# Altium footprint library Button_Switch_SMD.PcbLib: 148 footprints (part 6 of 10)
Each footprint in its own frame and in the unit in brackets; x right, y up, seen from the top. Pads: shape width x height; smd on the part's side, far side on the other; paste and mask are expansions set on the pad; w line width, h text height; cw(c..) or ccw(c..) is an arc to the next point about the centre after c.
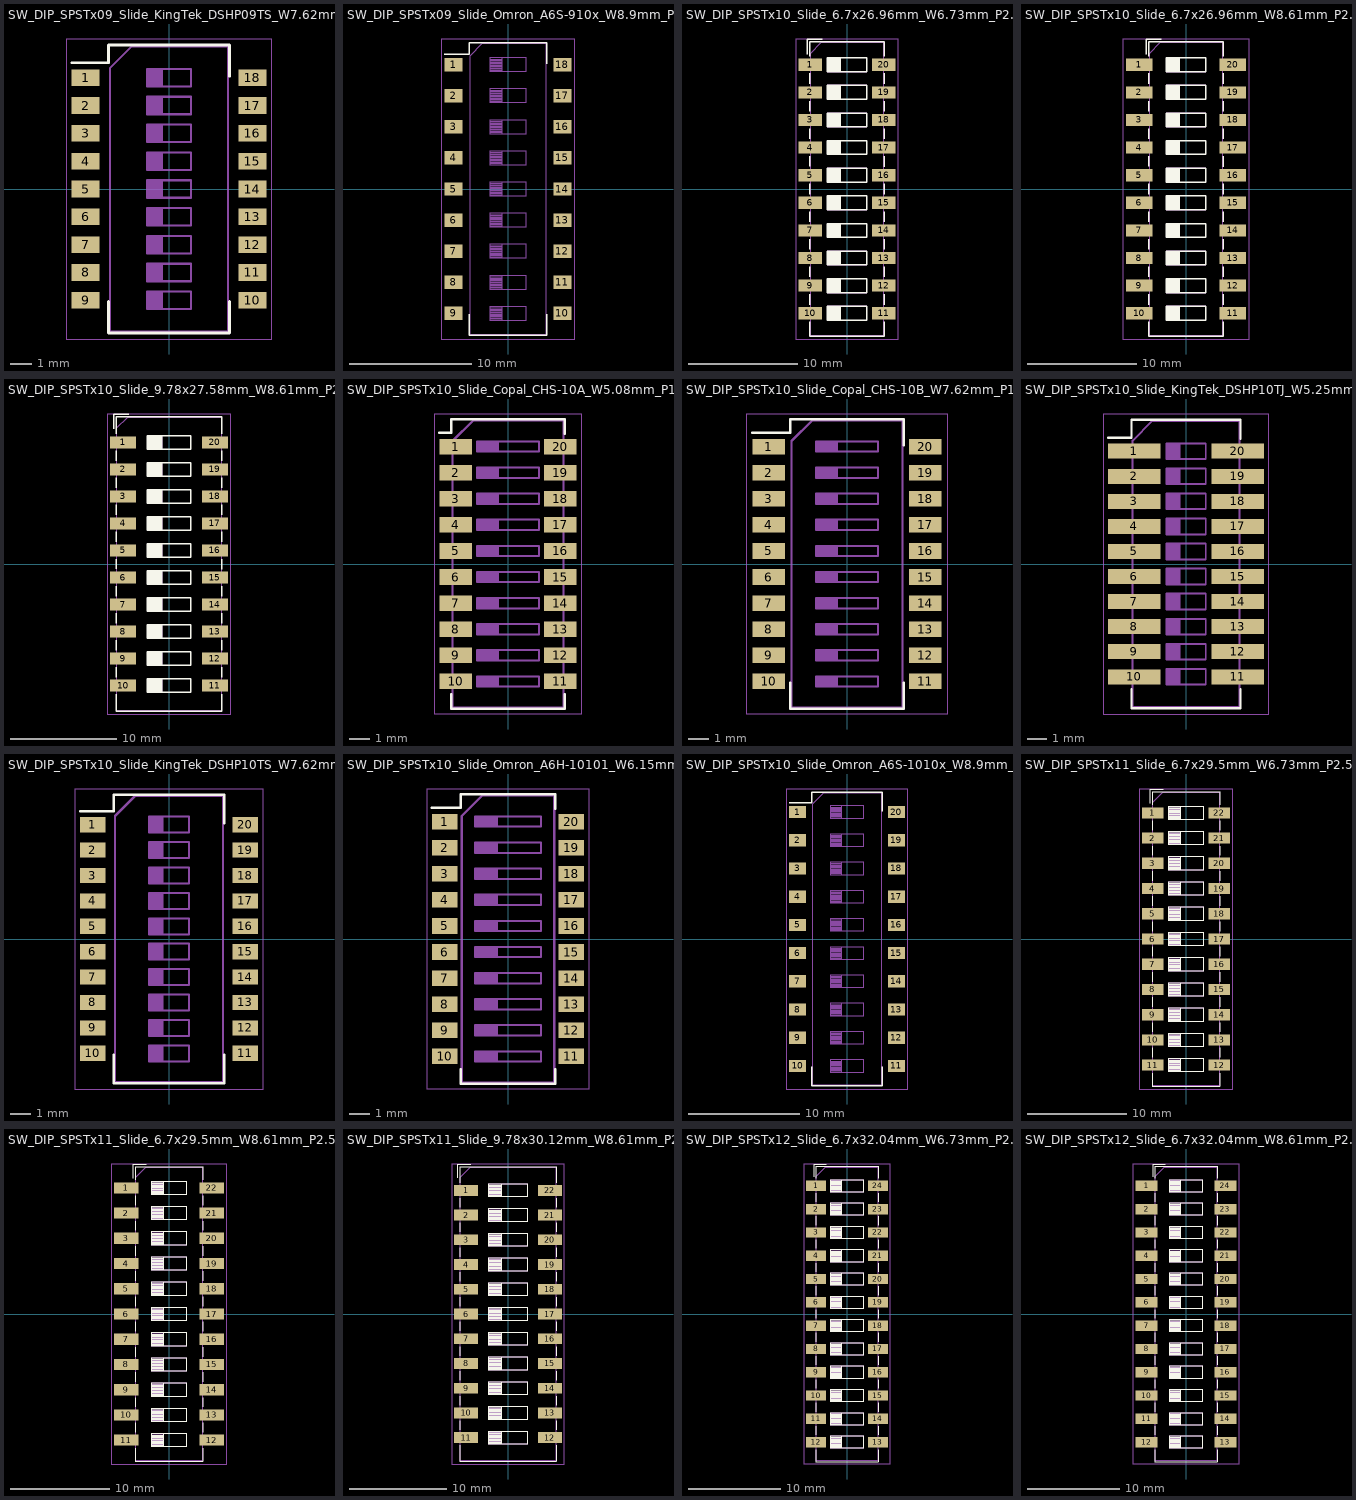
[diagram p5: the footprints below, top view; thin cyan lines are the x and y axes]

## SW_DIP_SPSTx09_Slide_KingTek_DSHP09TS_W7.62mm_P1.27mm [mm]
pads (18):
  rect 1.27x0.76 smd: 1(-3.81,5.08) 2(-3.81,3.81) 3(-3.81,2.54) 4(-3.81,1.27) 5(-3.81,0) 6(-3.81,-1.27) 7(-3.81,-2.54) 8(-3.81,-3.81) 9(-3.81,-5.08) 10(3.81,-5.08) 11(3.81,-3.81) 12(3.81,-2.54) 13(3.81,-1.27) 14(3.81,0) 15(3.81,1.27) 16(3.81,2.54) 17(3.81,3.81) 18(3.81,5.08)
F.SilkS:
  lines w0.12: -4.446,5.76 -2.76,5.76 -2.76,6.576 2.76,6.576 2.76,5.141 ; -2.76,-5.14 -2.76,-6.575 2.76,-6.575 2.76,-5.14
F.CrtYd:
  lines w0.05: -4.7,-6.85 4.7,-6.85 4.7,6.85 -4.7,6.85 -4.7,-6.85
F.Fab:
  lines w0.1: -1,-5.38 -0.333,-5.38 ; -1,-5.28 -0.333,-5.28 ; -1,-5.18 -0.333,-5.18 ; -1,-5.08 -0.333,-5.08 ; -1,-4.98 -0.333,-4.98 ; -1,-4.88 -0.333,-4.88 ; -1,-4.78 -0.333,-4.78 ; -1,-4.11 -0.333,-4.11 ; -1,-4.01 -0.333,-4.01 ; -1,-3.91 -0.333,-3.91 ; -1,-3.81 -0.333,-3.81 ; -1,-3.71 -0.333,-3.71 ; -1,-3.61 -0.333,-3.61 ; -1,-3.51 -0.333,-3.51 ; -1,-2.84 -0.333,-2.84 ; -1,-2.74 -0.333,-2.74 ; -1,-2.64 -0.333,-2.64 ; -1,-2.54 -0.333,-2.54 ; -1,-2.44 -0.333,-2.44 ; -1,-2.34 -0.333,-2.34 ; -1,-2.24 -0.333,-2.24 ; -1,-1.57 -0.333,-1.57 ; -1,-1.47 -0.333,-1.47 ; -1,-1.37 -0.333,-1.37 ; -1,-1.27 -0.333,-1.27 ; -1,-1.17 -0.333,-1.17 ; -1,-1.07 -0.333,-1.07 ; -1,-0.97 -0.333,-0.97 ; -1,-0.3 -0.333,-0.3 ; -1,-0.2 -0.333,-0.2 ; -1,-0.1 -0.333,-0.1 ; -1,0 -0.333,0 ; -1,0.1 -0.333,0.1 ; -1,0.2 -0.333,0.2 ; -1,0.3 -0.333,0.3 ; -1,0.97 -0.333,0.97 ; -1,1.07 -0.333,1.07 ; -1,1.17 -0.333,1.17 ; -1,1.27 -0.333,1.27 ; -1,1.37 -0.333,1.37 ; -1,1.47 -0.333,1.47 ; -1,1.57 -0.333,1.57 ; -1,2.24 -0.333,2.24 ; -1,2.34 -0.333,2.34 ; -1,2.44 -0.333,2.44 ; -1,2.54 -0.333,2.54 ; -1,2.64 -0.333,2.64 ; -1,2.74 -0.333,2.74 ; -1,2.84 -0.333,2.84 ; -1,3.51 -0.333,3.51 ; -1,3.61 -0.333,3.61 ; -1,3.71 -0.333,3.71 ; -1,3.81 -0.333,3.81 ; -1,3.91 -0.333,3.91 ; -1,4.01 -0.333,4.01 ; -1,4.11 -0.333,4.11 ; -1,4.78 -0.333,4.78 ; -1,4.88 -0.333,4.88 ; -1,4.98 -0.333,4.98 ; -1,5.08 -0.333,5.08 ; -1,5.18 -0.333,5.18 ; -1,5.28 -0.333,5.28 ; -1,5.38 -0.333,5.38 ; -0.333,-4.68 -0.333,-5.48 -1,-5.48 ; -0.333,-3.41 -0.333,-4.21 -1,-4.21 ; -0.333,-2.14 -0.333,-2.94 -1,-2.94 ; -0.333,-0.87 -0.333,-1.67 -1,-1.67 ; -0.333,0.4 -0.333,-0.4 -1,-0.4 ; -0.333,0.87 -0.333,1.67 ; -0.333,2.14 -0.333,2.94 ; -0.333,3.41 -0.333,4.21 ; -0.333,4.68 -0.333,5.48 ; -1,-5.48 1,-5.48 1,-4.68 -1,-4.68 -1,-5.48 ; -1,-4.21 1,-4.21 1,-3.41 -1,-3.41 -1,-4.21 ; -1,-2.94 1,-2.94 1,-2.14 -1,-2.14 -1,-2.94 ; -1,-1.67 1,-1.67 1,-0.87 -1,-0.87 -1,-1.67 ; -1,-0.4 -1,0.4 1,0.4 1,-0.4 -1,-0.4 ; -2.7,-6.515 -2.7,5.515 -1.7,6.515 2.7,6.515 2.7,-6.515 -2.7,-6.515 ; -1,0.87 -1,1.67 1,1.67 1,0.87 -1,0.87 ; -1,2.14 1,2.14 1,2.94 -1,2.94 -1,2.14 ; -1,3.41 1,3.41 1,4.21 -1,4.21 -1,3.41 ; -1,4.68 1,4.68 1,5.48 -1,5.48 -1,4.68
  text "on" at -0.72,5.611 h0.8
  text "'.Designator'" at 2.522,-3.237 h0.8

## SW_DIP_SPSTx09_Slide_Omron_A6S-910x_W8.9mm_P2.54mm [mm]
pads (18):
  rect 1.5x1.1 smd: 1(-4.45,10.16) 2(-4.45,7.62) 3(-4.45,5.08) 4(-4.45,2.54) 5(-4.45,0) 6(-4.45,-2.54) 7(-4.45,-5.08) 8(-4.45,-7.62) 9(-4.45,-10.16) 10(4.45,-10.16) 11(4.45,-7.62) 12(4.45,-5.08) 13(4.45,-2.54) 14(4.45,0) 15(4.45,2.54) 16(4.45,5.08) 17(4.45,7.62) 18(4.45,10.16)
F.SilkS:
  lines w0.12: -5.2,11.011 -3.16,11.011 -3.16,11.96 3.16,11.96 3.16,10.221 ; -3.16,-10.22 -3.16,-11.96 3.16,-11.96 3.16,-10.22
F.CrtYd:
  lines w0.05: -5.45,-12.25 -5.45,12.25 5.45,12.25 5.45,-12.25 -5.45,-12.25
F.Fab:
  lines w0.1: -1.5,-10.61 -0.5,-10.61 ; -1.5,-10.51 -0.5,-10.51 ; -1.5,-10.41 -0.5,-10.41 ; -1.5,-10.31 -0.5,-10.31 ; -1.5,-10.21 -0.5,-10.21 ; -1.5,-10.11 -0.5,-10.11 ; -1.5,-10.01 -0.5,-10.01 ; -1.5,-9.91 -0.5,-9.91 ; -1.5,-9.81 -0.5,-9.81 ; -1.5,-9.71 -0.5,-9.71 ; -1.5,-8.07 -0.5,-8.07 ; -1.5,-7.97 -0.5,-7.97 ; -1.5,-7.87 -0.5,-7.87 ; -1.5,-7.77 -0.5,-7.77 ; -1.5,-7.67 -0.5,-7.67 ; -1.5,-7.57 -0.5,-7.57 ; -1.5,-7.47 -0.5,-7.47 ; -1.5,-7.37 -0.5,-7.37 ; -1.5,-7.27 -0.5,-7.27 ; -1.5,-7.17 -0.5,-7.17 ; -1.5,-5.53 -0.5,-5.53 ; -1.5,-5.43 -0.5,-5.43 ; -1.5,-5.33 -0.5,-5.33 ; -1.5,-5.23 -0.5,-5.23 ; -1.5,-5.13 -0.5,-5.13 ; -1.5,-5.03 -0.5,-5.03 ; -1.5,-4.93 -0.5,-4.93 ; -1.5,-4.83 -0.5,-4.83 ; -1.5,-4.73 -0.5,-4.73 ; -1.5,-4.63 -0.5,-4.63 ; -1.5,-2.99 -0.5,-2.99 ; -1.5,-2.89 -0.5,-2.89 ; -1.5,-2.79 -0.5,-2.79 ; -1.5,-2.69 -0.5,-2.69 ; -1.5,-2.59 -0.5,-2.59 ; -1.5,-2.49 -0.5,-2.49 ; -1.5,-2.39 -0.5,-2.39 ; -1.5,-2.29 -0.5,-2.29 ; -1.5,-2.19 -0.5,-2.19 ; -1.5,-2.09 -0.5,-2.09 ; -1.5,-0.45 -0.5,-0.45 ; -1.5,-0.35 -0.5,-0.35 ; -1.5,-0.25 -0.5,-0.25 ; -1.5,-0.15 -0.5,-0.15 ; -1.5,-0.05 -0.5,-0.05 ; -1.5,0.05 -0.5,0.05 ; -1.5,0.15 -0.5,0.15 ; -1.5,0.25 -0.5,0.25 ; -1.5,0.35 -0.5,0.35 ; -1.5,0.45 -0.5,0.45 ; -1.5,2.09 -0.5,2.09 ; -1.5,2.19 -0.5,2.19 ; -1.5,2.29 -0.5,2.29 ; -1.5,2.39 -0.5,2.39 ; -1.5,2.49 -0.5,2.49 ; -1.5,2.59 -0.5,2.59 ; -1.5,2.69 -0.5,2.69 ; -1.5,2.79 -0.5,2.79 ; -1.5,2.89 -0.5,2.89 ; -1.5,2.99 -0.5,2.99 ; -1.5,4.63 -0.5,4.63 ; -1.5,4.73 -0.5,4.73 ; -1.5,4.83 -0.5,4.83 ; -1.5,4.93 -0.5,4.93 ; -1.5,5.03 -0.5,5.03 ; -1.5,5.13 -0.5,5.13 ; -1.5,5.23 -0.5,5.23 ; -1.5,5.33 -0.5,5.33 ; -1.5,5.43 -0.5,5.43 ; -1.5,5.53 -0.5,5.53 ; -1.5,7.17 -0.5,7.17 ; -1.5,7.27 -0.5,7.27 ; -1.5,7.37 -0.5,7.37 ; -1.5,7.47 -0.5,7.47 ; -1.5,7.57 -0.5,7.57 ; -1.5,7.67 -0.5,7.67 ; -1.5,7.77 -0.5,7.77 ; -1.5,7.87 -0.5,7.87 ; -1.5,7.97 -0.5,7.97 ; -1.5,8.07 -0.5,8.07 ; -1.5,9.71 -0.5,9.71 ; -1.5,9.81 -0.5,9.81 ; -1.5,9.91 -0.5,9.91 ; -1.5,10.01 -0.5,10.01 ; -1.5,10.11 -0.5,10.11 ; -1.5,10.21 -0.5,10.21 ; -1.5,10.31 -0.5,10.31 ; -1.5,10.41 -0.5,10.41 ; -1.5,10.51 -0.5,10.51 ; -1.5,10.61 -0.5,10.61 ; -0.5,-10.71 -0.5,-9.61 ; -0.5,-8.17 -0.5,-7.07 ; -0.5,-4.53 -0.5,-5.63 -1.5,-5.63 ; -0.5,-1.99 -0.5,-3.09 -1.5,-3.09 ; -0.5,0.55 -0.5,-0.55 -1.5,-0.55 ; -0.5,3.09 -0.5,1.99 -1.5,1.99 ; -0.5,5.63 -0.5,4.53 -1.5,4.53 ; -0.5,7.07 -0.5,8.17 ; -0.5,10.71 -0.5,9.61 -1.5,9.61 ; -1.5,-5.63 1.5,-5.63 1.5,-4.53 -1.5,-4.53 -1.5,-5.63 ; -1.5,-3.09 1.5,-3.09 1.5,-1.99 -1.5,-1.99 -1.5,-3.09 ; -1.5,-0.55 -1.5,0.55 1.5,0.55 1.5,-0.55 -1.5,-0.55 ; -1.5,1.99 -1.5,3.09 1.5,3.09 1.5,1.99 -1.5,1.99 ; -1.5,4.53 1.5,4.53 1.5,5.63 -1.5,5.63 -1.5,4.53 ; -1.5,9.61 -1.5,10.71 1.5,10.71 1.5,9.61 -1.5,9.61 ; -3.1,-11.9 3.1,-11.9 3.1,11.9 -2.1,11.9 -3.1,10.9 -3.1,-11.9 ; -1.5,-10.71 -1.5,-9.61 1.5,-9.61 1.5,-10.71 -1.5,-10.71 ; -1.5,-8.17 1.5,-8.17 1.5,-7.07 -1.5,-7.07 -1.5,-8.17 ; -1.5,7.07 -1.5,8.17 1.5,8.17 1.5,7.07 -1.5,7.07
  text "on" at -0.59,10.918 h0.8
  text "'.Designator'" at 2.972,-3.237 h0.8

## SW_DIP_SPSTx10_Slide_6.7x26.96mm_W6.73mm_P2.54mm_LowProfile_JPin [mm]
pads (20):
  rect 2.16x1.12 smd: 1(-3.365,11.43) 2(-3.365,8.89) 3(-3.365,6.35) 4(-3.365,3.81) 5(-3.365,1.27) 6(-3.365,-1.27) 7(-3.365,-3.81) 8(-3.365,-6.35) 9(-3.365,-8.89) 10(-3.365,-11.43) 11(3.365,-11.43) 12(3.365,-8.89) 13(3.365,-6.35) 14(3.365,-3.81) 15(3.365,-1.27) 16(3.365,1.27) 17(3.365,3.81) 18(3.365,6.35) 19(3.365,8.89) 20(3.365,11.43)
F.SilkS:
  drawing of 176 lines, arcs and shapes, not listed
F.CrtYd:
  lines w0.05: -4.7,-13.8 4.7,-13.8 4.7,13.8 -4.7,13.8 -4.7,-13.8
F.Fab:
  drawing of 175 lines, arcs and shapes, not listed
  text "'.Designator'" at 3.252,-3.237 h0.8
  text "on" at 0.233,12.386 h0.8

## SW_DIP_SPSTx10_Slide_6.7x26.96mm_W8.61mm_P2.54mm_LowProfile [mm]
pads (20):
  rect 2.44x1.12 smd: 1(-4.305,11.43) 2(-4.305,8.89) 3(-4.305,6.35) 4(-4.305,3.81) 5(-4.305,1.27) 6(-4.305,-1.27) 7(-4.305,-3.81) 8(-4.305,-6.35) 9(-4.305,-8.89) 10(-4.305,-11.43) 11(4.305,-11.43) 12(4.305,-8.89) 13(4.305,-6.35) 14(4.305,-3.81) 15(4.305,-1.27) 16(4.305,1.27) 17(4.305,3.81) 18(4.305,6.35) 19(4.305,8.89) 20(4.305,11.43)
F.SilkS:
  drawing of 176 lines, arcs and shapes, not listed
F.CrtYd:
  lines w0.05: -5.8,-13.8 -5.8,13.8 5.8,13.8 5.8,-13.8 -5.8,-13.8
F.Fab:
  drawing of 175 lines, arcs and shapes, not listed
  text "'.Designator'" at 3.252,-3.237 h0.8
  text "on" at -0.237,12.386 h0.8

## SW_DIP_SPSTx10_Slide_9.78x27.58mm_W8.61mm_P2.54mm [mm]
pads (20):
  rect 2.44x1.12 smd: 1(-4.305,11.43) 2(-4.305,8.89) 3(-4.305,6.35) 4(-4.305,3.81) 5(-4.305,1.27) 6(-4.305,-1.27) 7(-4.305,-3.81) 8(-4.305,-6.35) 9(-4.305,-8.89) 10(-4.305,-11.43) 11(4.305,-11.43) 12(4.305,-8.89) 13(4.305,-6.35) 14(4.305,-3.81) 15(4.305,-1.27) 16(4.305,1.27) 17(4.305,3.81) 18(4.305,6.35) 19(4.305,8.89) 20(4.305,11.43)
F.SilkS:
  drawing of 176 lines, arcs and shapes, not listed
F.CrtYd:
  lines w0.05: -5.8,-14.1 -5.8,14.1 5.8,14.1 5.8,-14.1 -5.8,-14.1
F.Fab:
  drawing of 175 lines, arcs and shapes, not listed
  text "on" at 0.643,12.541 h0.8
  text "'.Designator'" at 4.132,-3.237 h0.8

## SW_DIP_SPSTx10_Slide_Copal_CHS-10A_W5.08mm_P1.27mm_JPin [mm]
pads (20):
  rect 1.6x0.76 smd: 1(-2.54,5.715) 2(-2.54,4.445) 3(-2.54,3.175) 4(-2.54,1.905) 5(-2.54,0.635) 6(-2.54,-0.635) 7(-2.54,-1.905) 8(-2.54,-3.175) 9(-2.54,-4.445) 10(-2.54,-5.715) 11(2.54,-5.715) 12(2.54,-4.445) 13(2.54,-3.175) 14(2.54,-1.905) 15(2.54,-0.635) 16(2.54,0.635) 17(2.54,1.905) 18(2.54,3.175) 19(2.54,4.445) 20(2.54,5.715)
F.SilkS:
  lines w0.12: -3.34,6.395 -2.761,6.395 -2.761,7.045 2.76,7.045 2.76,6.335 ; -2.761,-6.335 -2.761,-7.045 2.76,-7.045 2.76,-6.335
F.CrtYd:
  lines w0.05: -3.6,-7.3 3.6,-7.3 3.6,7.3 -3.6,7.3 -3.6,-7.3
F.Fab:
  lines w0.1: -1.5,-5.865 -0.5,-5.865 ; -1.5,-5.765 -0.5,-5.765 ; -1.5,-5.665 -0.5,-5.665 ; -1.5,-5.565 -0.5,-5.565 ; -1.5,-4.595 -0.5,-4.595 ; -1.5,-4.495 -0.5,-4.495 ; -1.5,-4.395 -0.5,-4.395 ; -1.5,-4.295 -0.5,-4.295 ; -1.5,-3.325 -0.5,-3.325 ; -1.5,-3.225 -0.5,-3.225 ; -1.5,-3.125 -0.5,-3.125 ; -1.5,-3.025 -0.5,-3.025 ; -1.5,-2.055 -0.5,-2.055 ; -1.5,-1.955 -0.5,-1.955 ; -1.5,-1.855 -0.5,-1.855 ; -1.5,-1.755 -0.5,-1.755 ; -1.5,-0.785 -0.5,-0.785 ; -1.5,-0.685 -0.5,-0.685 ; -1.5,-0.585 -0.5,-0.585 ; -1.5,-0.485 -0.5,-0.485 ; -1.5,0.485 -0.5,0.485 ; -1.5,0.585 -0.5,0.585 ; -1.5,0.685 -0.5,0.685 ; -1.5,0.785 -0.5,0.785 ; -1.5,1.755 -0.5,1.755 ; -1.5,1.855 -0.5,1.855 ; -1.5,1.955 -0.5,1.955 ; -1.5,2.055 -0.5,2.055 ; -1.5,3.025 -0.5,3.025 ; -1.5,3.125 -0.5,3.125 ; -1.5,3.225 -0.5,3.225 ; -1.5,3.325 -0.5,3.325 ; -1.5,4.295 -0.5,4.295 ; -1.5,4.395 -0.5,4.395 ; -1.5,4.495 -0.5,4.495 ; -1.5,4.595 -0.5,4.595 ; -1.5,5.565 -0.5,5.565 ; -1.5,5.665 -0.5,5.665 ; -1.5,5.765 -0.5,5.765 ; -1.5,5.865 -0.5,5.865 ; -0.5,-5.465 -0.5,-5.965 -1.5,-5.965 ; -0.5,-4.195 -0.5,-4.695 -1.5,-4.695 ; -0.5,-2.925 -0.5,-3.425 -1.5,-3.425 ; -0.5,-1.655 -0.5,-2.155 -1.5,-2.155 ; -0.5,-0.385 -0.5,-0.885 -1.5,-0.885 ; -0.5,0.885 -0.5,0.385 -1.5,0.385 ; -0.5,1.655 -0.5,2.155 ; -0.5,2.925 -0.5,3.425 ; -0.5,4.195 -0.5,4.695 ; -0.5,5.465 -0.5,5.965 ; -1.5,-5.965 1.5,-5.965 1.5,-5.465 -1.5,-5.465 -1.5,-5.965 ; -1.5,-4.695 1.5,-4.695 1.5,-4.195 -1.5,-4.195 -1.5,-4.695 ; -1.5,-3.425 -1.5,-2.925 1.5,-2.925 1.5,-3.425 -1.5,-3.425 ; -1.5,-2.155 1.5,-2.155 1.5,-1.655 -1.5,-1.655 -1.5,-2.155 ; -1.5,-0.885 -1.5,-0.385 1.5,-0.385 1.5,-0.885 -1.5,-0.885 ; -1.5,0.385 1.5,0.385 1.5,0.885 -1.5,0.885 -1.5,0.385 ; -2.7,-6.985 2.7,-6.985 2.7,6.985 -1.7,6.985 -2.7,5.985 -2.7,-6.985 ; -1.5,1.655 -1.5,2.155 1.5,2.155 1.5,1.655 -1.5,1.655 ; -1.5,2.925 1.5,2.925 1.5,3.425 -1.5,3.425 -1.5,2.925 ; -1.5,4.195 -1.5,4.695 1.5,4.695 1.5,4.195 -1.5,4.195 ; -1.5,5.465 -1.5,5.965 1.5,5.965 1.5,5.465 -1.5,5.465
  text "on" at 0.165,6.088 h0.8
  text "'.Designator'" at 2.772,-3.237 h0.8

## SW_DIP_SPSTx10_Slide_Copal_CHS-10B_W7.62mm_P1.27mm [mm]
pads (20):
  rect 1.6x0.76 smd: 1(-3.81,5.715) 2(-3.81,4.445) 3(-3.81,3.175) 4(-3.81,1.905) 5(-3.81,0.635) 6(-3.81,-0.635) 7(-3.81,-1.905) 8(-3.81,-3.175) 9(-3.81,-4.445) 10(-3.81,-5.715) 11(3.81,-5.715) 12(3.81,-4.445) 13(3.81,-3.175) 14(3.81,-1.905) 15(3.81,-0.635) 16(3.81,0.635) 17(3.81,1.905) 18(3.81,3.175) 19(3.81,4.445) 20(3.81,5.715)
F.SilkS:
  lines w0.12: -4.61,6.395 -2.76,6.395 -2.76,7.045 2.76,7.045 2.76,5.776 ; -2.76,-5.775 -2.76,-7.045 2.76,-7.045 2.76,-5.775
F.CrtYd:
  lines w0.05: -4.9,-7.3 4.9,-7.3 4.9,7.3 -4.9,7.3 -4.9,-7.3
F.Fab:
  lines w0.1: -1.5,-5.865 -0.5,-5.865 ; -1.5,-5.765 -0.5,-5.765 ; -1.5,-5.665 -0.5,-5.665 ; -1.5,-5.565 -0.5,-5.565 ; -1.5,-4.595 -0.5,-4.595 ; -1.5,-4.495 -0.5,-4.495 ; -1.5,-4.395 -0.5,-4.395 ; -1.5,-4.295 -0.5,-4.295 ; -1.5,-3.325 -0.5,-3.325 ; -1.5,-3.225 -0.5,-3.225 ; -1.5,-3.125 -0.5,-3.125 ; -1.5,-3.025 -0.5,-3.025 ; -1.5,-2.055 -0.5,-2.055 ; -1.5,-1.955 -0.5,-1.955 ; -1.5,-1.855 -0.5,-1.855 ; -1.5,-1.755 -0.5,-1.755 ; -1.5,-0.785 -0.5,-0.785 ; -1.5,-0.685 -0.5,-0.685 ; -1.5,-0.585 -0.5,-0.585 ; -1.5,-0.485 -0.5,-0.485 ; -1.5,0.485 -0.5,0.485 ; -1.5,0.585 -0.5,0.585 ; -1.5,0.685 -0.5,0.685 ; -1.5,0.785 -0.5,0.785 ; -1.5,1.755 -0.5,1.755 ; -1.5,1.855 -0.5,1.855 ; -1.5,1.955 -0.5,1.955 ; -1.5,2.055 -0.5,2.055 ; -1.5,3.025 -0.5,3.025 ; -1.5,3.125 -0.5,3.125 ; -1.5,3.225 -0.5,3.225 ; -1.5,3.325 -0.5,3.325 ; -1.5,4.295 -0.5,4.295 ; -1.5,4.395 -0.5,4.395 ; -1.5,4.495 -0.5,4.495 ; -1.5,4.595 -0.5,4.595 ; -1.5,5.565 -0.5,5.565 ; -1.5,5.665 -0.5,5.665 ; -1.5,5.765 -0.5,5.765 ; -1.5,5.865 -0.5,5.865 ; -0.5,-5.465 -0.5,-5.965 -1.5,-5.965 ; -0.5,-4.195 -0.5,-4.695 -1.5,-4.695 ; -0.5,-2.925 -0.5,-3.425 -1.5,-3.425 ; -0.5,-1.655 -0.5,-2.155 -1.5,-2.155 ; -0.5,-0.385 -0.5,-0.885 -1.5,-0.885 ; -0.5,0.885 -0.5,0.385 -1.5,0.385 ; -0.5,1.655 -0.5,2.155 ; -0.5,2.925 -0.5,3.425 ; -0.5,4.195 -0.5,4.695 ; -0.5,5.465 -0.5,5.965 ; -1.5,-5.965 -1.5,-5.465 1.5,-5.465 1.5,-5.965 -1.5,-5.965 ; -1.5,-4.695 -1.5,-4.195 1.5,-4.195 1.5,-4.695 -1.5,-4.695 ; -1.5,-3.425 -1.5,-2.925 1.5,-2.925 1.5,-3.425 -1.5,-3.425 ; -1.5,-2.155 1.5,-2.155 1.5,-1.655 -1.5,-1.655 -1.5,-2.155 ; -1.5,-0.885 -1.5,-0.385 1.5,-0.385 1.5,-0.885 -1.5,-0.885 ; -1.5,0.385 1.5,0.385 1.5,0.885 -1.5,0.885 -1.5,0.385 ; -2.7,-6.985 -2.7,5.985 -1.7,6.985 2.7,6.985 2.7,-6.985 -2.7,-6.985 ; -1.5,1.655 -1.5,2.155 1.5,2.155 1.5,1.655 -1.5,1.655 ; -1.5,2.925 1.5,2.925 1.5,3.425 -1.5,3.425 -1.5,2.925 ; -1.5,4.195 -1.5,4.695 1.5,4.695 1.5,4.195 -1.5,4.195 ; -1.5,5.465 1.5,5.465 1.5,5.965 -1.5,5.965 -1.5,5.465
  text "'.Designator'" at 2.772,-3.237 h0.8
  text "on" at -0.47,6.088 h0.8

## SW_DIP_SPSTx10_Slide_KingTek_DSHP10TJ_W5.25mm_P1.27mm_JPin [mm]
pads (20):
  rect 2.65x0.76 smd: 1(-2.625,5.715) 2(-2.625,4.445) 3(-2.625,3.175) 4(-2.625,1.905) 5(-2.625,0.635) 6(-2.625,-0.635) 7(-2.625,-1.905) 8(-2.625,-3.175) 9(-2.625,-4.445) 10(-2.625,-5.715) 11(2.625,-5.715) 12(2.625,-4.445) 13(2.625,-3.175) 14(2.625,-1.905) 15(2.625,-0.635) 16(2.625,0.635) 17(2.625,1.905) 18(2.625,3.175) 19(2.625,4.445) 20(2.625,5.715)
F.SilkS:
  lines w0.12: -3.951,6.395 -2.761,6.395 -2.761,7.31 2.76,7.31 2.76,6.335 ; -2.761,-6.335 -2.761,-7.31 2.76,-7.31 2.76,-6.335
F.CrtYd:
  lines w0.05: -4.2,-7.6 -4.2,7.6 4.2,7.6 4.2,-7.6 -4.2,-7.6
F.Fab:
  lines w0.1: -1,-6.015 -0.333,-6.015 ; -1,-5.915 -0.333,-5.915 ; -1,-5.815 -0.333,-5.815 ; -1,-5.715 -0.333,-5.715 ; -1,-5.615 -0.333,-5.615 ; -1,-5.515 -0.333,-5.515 ; -1,-5.415 -0.333,-5.415 ; -1,-4.745 -0.333,-4.745 ; -1,-4.645 -0.333,-4.645 ; -1,-4.545 -0.333,-4.545 ; -1,-4.445 -0.333,-4.445 ; -1,-4.345 -0.333,-4.345 ; -1,-4.245 -0.333,-4.245 ; -1,-4.145 -0.333,-4.145 ; -1,-3.475 -0.333,-3.475 ; -1,-3.375 -0.333,-3.375 ; -1,-3.275 -0.333,-3.275 ; -1,-3.175 -0.333,-3.175 ; -1,-3.075 -0.333,-3.075 ; -1,-2.975 -0.333,-2.975 ; -1,-2.875 -0.333,-2.875 ; -1,-2.205 -0.333,-2.205 ; -1,-2.105 -0.333,-2.105 ; -1,-2.005 -0.333,-2.005 ; -1,-1.905 -0.333,-1.905 ; -1,-1.805 -0.333,-1.805 ; -1,-1.705 -0.333,-1.705 ; -1,-1.605 -0.333,-1.605 ; -1,-0.935 -0.333,-0.935 ; -1,-0.835 -0.333,-0.835 ; -1,-0.735 -0.333,-0.735 ; -1,-0.635 -0.333,-0.635 ; -1,-0.535 -0.333,-0.535 ; -1,-0.435 -0.333,-0.435 ; -1,-0.335 -0.333,-0.335 ; -1,0.335 -0.333,0.335 ; -1,0.435 -0.333,0.435 ; -1,0.535 -0.333,0.535 ; -1,0.635 -0.333,0.635 ; -1,0.735 -0.333,0.735 ; -1,0.835 -0.333,0.835 ; -1,0.935 -0.333,0.935 ; -1,1.605 -0.333,1.605 ; -1,1.705 -0.333,1.705 ; -1,1.805 -0.333,1.805 ; -1,1.905 -0.333,1.905 ; -1,2.005 -0.333,2.005 ; -1,2.105 -0.333,2.105 ; -1,2.205 -0.333,2.205 ; -1,2.875 -0.333,2.875 ; -1,2.975 -0.333,2.975 ; -1,3.075 -0.333,3.075 ; -1,3.175 -0.333,3.175 ; -1,3.275 -0.333,3.275 ; -1,3.375 -0.333,3.375 ; -1,3.475 -0.333,3.475 ; -1,4.145 -0.333,4.145 ; -1,4.245 -0.333,4.245 ; -1,4.345 -0.333,4.345 ; -1,4.445 -0.333,4.445 ; -1,4.545 -0.333,4.545 ; -1,4.645 -0.333,4.645 ; -1,4.745 -0.333,4.745 ; -1,5.415 -0.333,5.415 ; -1,5.515 -0.333,5.515 ; -1,5.615 -0.333,5.615 ; -1,5.715 -0.333,5.715 ; -1,5.815 -0.333,5.815 ; -1,5.915 -0.333,5.915 ; -1,6.015 -0.333,6.015 ; -0.333,-5.315 -0.333,-6.115 -1,-6.115 ; -0.333,-4.045 -0.333,-4.845 -1,-4.845 ; -0.333,-2.775 -0.333,-3.575 -1,-3.575 ; -0.333,-1.505 -0.333,-2.305 -1,-2.305 ; -0.333,-0.235 -0.333,-1.035 -1,-1.035 ; -0.333,1.035 -0.333,0.235 -1,0.235 ; -0.333,1.505 -0.333,2.305 ; -0.333,2.775 -0.333,3.575 ; -0.333,4.045 -0.333,4.845 ; -0.333,5.315 -0.333,6.115 ; -1,-6.115 -1,-5.315 1,-5.315 1,-6.115 -1,-6.115 ; -1,-4.845 -1,-4.045 1,-4.045 1,-4.845 -1,-4.845 ; -1,-3.575 1,-3.575 1,-2.775 -1,-2.775 -1,-3.575 ; -1,-2.305 -1,-1.505 1,-1.505 1,-2.305 -1,-2.305 ; -1,-1.035 1,-1.035 1,-0.235 -1,-0.235 -1,-1.035 ; -1,0.235 -1,1.035 1,1.035 1,0.235 -1,0.235 ; -2.7,-7.25 -2.7,6.25 -1.7,7.25 2.7,7.25 2.7,-7.25 -2.7,-7.25 ; -1,1.505 -1,2.305 1,2.305 1,1.505 -1,1.505 ; -1,2.775 -1,3.575 1,3.575 1,2.775 -1,2.775 ; -1,4.045 1,4.045 1,4.845 -1,4.845 -1,4.045 ; -1,5.315 -1,6.115 1,6.115 1,5.315 -1,5.315
  text "'.Designator'" at 2.522,-3.237 h0.8
  text "on" at -0.127,6.296 h0.8

## SW_DIP_SPSTx10_Slide_KingTek_DSHP10TS_W7.62mm_P1.27mm [mm]
pads (20):
  rect 1.27x0.76 smd: 1(-3.81,5.715) 2(-3.81,4.445) 3(-3.81,3.175) 4(-3.81,1.905) 5(-3.81,0.635) 6(-3.81,-0.635) 7(-3.81,-1.905) 8(-3.81,-3.175) 9(-3.81,-4.445) 10(-3.81,-5.715) 11(3.81,-5.715) 12(3.81,-4.445) 13(3.81,-3.175) 14(3.81,-1.905) 15(3.81,-0.635) 16(3.81,0.635) 17(3.81,1.905) 18(3.81,3.175) 19(3.81,4.445) 20(3.81,5.715)
F.SilkS:
  lines w0.12: -4.446,6.395 -2.76,6.395 -2.76,7.211 2.76,7.211 2.76,5.776 ; -2.76,-5.775 -2.76,-7.21 2.76,-7.21 2.76,-5.775
F.CrtYd:
  lines w0.05: -4.7,-7.5 -4.7,7.5 4.7,7.5 4.7,-7.5 -4.7,-7.5
F.Fab:
  lines w0.1: -1,-6.015 -0.333,-6.015 ; -1,-5.915 -0.333,-5.915 ; -1,-5.815 -0.333,-5.815 ; -1,-5.715 -0.333,-5.715 ; -1,-5.615 -0.333,-5.615 ; -1,-5.515 -0.333,-5.515 ; -1,-5.415 -0.333,-5.415 ; -1,-4.745 -0.333,-4.745 ; -1,-4.645 -0.333,-4.645 ; -1,-4.545 -0.333,-4.545 ; -1,-4.445 -0.333,-4.445 ; -1,-4.345 -0.333,-4.345 ; -1,-4.245 -0.333,-4.245 ; -1,-4.145 -0.333,-4.145 ; -1,-3.475 -0.333,-3.475 ; -1,-3.375 -0.333,-3.375 ; -1,-3.275 -0.333,-3.275 ; -1,-3.175 -0.333,-3.175 ; -1,-3.075 -0.333,-3.075 ; -1,-2.975 -0.333,-2.975 ; -1,-2.875 -0.333,-2.875 ; -1,-2.205 -0.333,-2.205 ; -1,-2.105 -0.333,-2.105 ; -1,-2.005 -0.333,-2.005 ; -1,-1.905 -0.333,-1.905 ; -1,-1.805 -0.333,-1.805 ; -1,-1.705 -0.333,-1.705 ; -1,-1.605 -0.333,-1.605 ; -1,-0.935 -0.333,-0.935 ; -1,-0.835 -0.333,-0.835 ; -1,-0.735 -0.333,-0.735 ; -1,-0.635 -0.333,-0.635 ; -1,-0.535 -0.333,-0.535 ; -1,-0.435 -0.333,-0.435 ; -1,-0.335 -0.333,-0.335 ; -1,0.335 -0.333,0.335 ; -1,0.435 -0.333,0.435 ; -1,0.535 -0.333,0.535 ; -1,0.635 -0.333,0.635 ; -1,0.735 -0.333,0.735 ; -1,0.835 -0.333,0.835 ; -1,0.935 -0.333,0.935 ; -1,1.605 -0.333,1.605 ; -1,1.705 -0.333,1.705 ; -1,1.805 -0.333,1.805 ; -1,1.905 -0.333,1.905 ; -1,2.005 -0.333,2.005 ; -1,2.105 -0.333,2.105 ; -1,2.205 -0.333,2.205 ; -1,2.875 -0.333,2.875 ; -1,2.975 -0.333,2.975 ; -1,3.075 -0.333,3.075 ; -1,3.175 -0.333,3.175 ; -1,3.275 -0.333,3.275 ; -1,3.375 -0.333,3.375 ; -1,3.475 -0.333,3.475 ; -1,4.145 -0.333,4.145 ; -1,4.245 -0.333,4.245 ; -1,4.345 -0.333,4.345 ; -1,4.445 -0.333,4.445 ; -1,4.545 -0.333,4.545 ; -1,4.645 -0.333,4.645 ; -1,4.745 -0.333,4.745 ; -1,5.415 -0.333,5.415 ; -1,5.515 -0.333,5.515 ; -1,5.615 -0.333,5.615 ; -1,5.715 -0.333,5.715 ; -1,5.815 -0.333,5.815 ; -1,5.915 -0.333,5.915 ; -1,6.015 -0.333,6.015 ; -0.333,-5.315 -0.333,-6.115 -1,-6.115 ; -0.333,-4.045 -0.333,-4.845 -1,-4.845 ; -0.333,-2.775 -0.333,-3.575 -1,-3.575 ; -0.333,-1.505 -0.333,-2.305 -1,-2.305 ; -0.333,-0.235 -0.333,-1.035 -1,-1.035 ; -0.333,1.035 -0.333,0.235 -1,0.235 ; -0.333,1.505 -0.333,2.305 ; -0.333,2.775 -0.333,3.575 ; -0.333,4.045 -0.333,4.845 ; -0.333,5.315 -0.333,6.115 ; -1,-6.115 -1,-5.315 1,-5.315 1,-6.115 -1,-6.115 ; -1,-4.845 1,-4.845 1,-4.045 -1,-4.045 -1,-4.845 ; -1,-3.575 -1,-2.775 1,-2.775 1,-3.575 -1,-3.575 ; -1,-2.305 1,-2.305 1,-1.505 -1,-1.505 -1,-2.305 ; -1,-1.035 -1,-0.235 1,-0.235 1,-1.035 -1,-1.035 ; -1,0.235 1,0.235 1,1.035 -1,1.035 -1,0.235 ; -2.7,-7.15 -2.7,6.15 -1.7,7.15 2.7,7.15 2.7,-7.15 -2.7,-7.15 ; -1,1.505 -1,2.305 1,2.305 1,1.505 -1,1.505 ; -1,2.775 -1,3.575 1,3.575 1,2.775 -1,2.775 ; -1,4.045 1,4.045 1,4.845 -1,4.845 -1,4.045 ; -1,5.315 1,5.315 1,6.115 -1,6.115 -1,5.315
  text "on" at -0.72,6.246 h0.8
  text "'.Designator'" at 2.522,-3.237 h0.8

## SW_DIP_SPSTx10_Slide_Omron_A6H-10101_W6.15mm_P1.27mm [mm]
pads (20):
  rect 1.25x0.76 smd: 1(-3.075,5.715) 2(-3.075,4.445) 3(-3.075,3.175) 4(-3.075,1.905) 5(-3.075,0.635) 6(-3.075,-0.635) 7(-3.075,-1.905) 8(-3.075,-3.175) 9(-3.075,-4.445) 10(-3.075,-5.715) 11(3.075,-5.715) 12(3.075,-4.445) 13(3.075,-3.175) 14(3.075,-1.905) 15(3.075,-0.635) 16(3.075,0.635) 17(3.075,1.905) 18(3.075,3.175) 19(3.075,4.445) 20(3.075,5.715)
F.SilkS:
  lines w0.12: -3.7,6.395 -2.309,6.395 -2.309,7.045 2.31,7.045 2.31,6.335 ; -2.309,-6.335 -2.309,-7.045 2.31,-7.045 2.31,-6.335
F.CrtYd:
  lines w0.05: -3.95,-7.3 3.95,-7.3 3.95,7.3 -3.95,7.3 -3.95,-7.3
F.Fab:
  lines w0.1: -1.6,-5.865 -0.533,-5.865 ; -1.6,-5.765 -0.533,-5.765 ; -1.6,-5.665 -0.533,-5.665 ; -1.6,-5.565 -0.533,-5.565 ; -1.6,-4.595 -0.533,-4.595 ; -1.6,-4.495 -0.533,-4.495 ; -1.6,-4.395 -0.533,-4.395 ; -1.6,-4.295 -0.533,-4.295 ; -1.6,-3.325 -0.533,-3.325 ; -1.6,-3.225 -0.533,-3.225 ; -1.6,-3.125 -0.533,-3.125 ; -1.6,-3.025 -0.533,-3.025 ; -1.6,-2.055 -0.533,-2.055 ; -1.6,-1.955 -0.533,-1.955 ; -1.6,-1.855 -0.533,-1.855 ; -1.6,-1.755 -0.533,-1.755 ; -1.6,-0.785 -0.533,-0.785 ; -1.6,-0.685 -0.533,-0.685 ; -1.6,-0.585 -0.533,-0.585 ; -1.6,-0.485 -0.533,-0.485 ; -1.6,0.485 -0.533,0.485 ; -1.6,0.585 -0.533,0.585 ; -1.6,0.685 -0.533,0.685 ; -1.6,0.785 -0.533,0.785 ; -1.6,1.755 -0.533,1.755 ; -1.6,1.855 -0.533,1.855 ; -1.6,1.955 -0.533,1.955 ; -1.6,2.055 -0.533,2.055 ; -1.6,3.025 -0.533,3.025 ; -1.6,3.125 -0.533,3.125 ; -1.6,3.225 -0.533,3.225 ; -1.6,3.325 -0.533,3.325 ; -1.6,4.295 -0.533,4.295 ; -1.6,4.395 -0.533,4.395 ; -1.6,4.495 -0.533,4.495 ; -1.6,4.595 -0.533,4.595 ; -1.6,5.565 -0.533,5.565 ; -1.6,5.665 -0.533,5.665 ; -1.6,5.765 -0.533,5.765 ; -1.6,5.865 -0.533,5.865 ; -0.533,-5.465 -0.533,-5.965 -1.6,-5.965 ; -0.533,-4.195 -0.533,-4.695 -1.6,-4.695 ; -0.533,-2.925 -0.533,-3.425 -1.6,-3.425 ; -0.533,-1.655 -0.533,-2.155 -1.6,-2.155 ; -0.533,-0.385 -0.533,-0.885 -1.6,-0.885 ; -0.533,0.885 -0.533,0.385 -1.6,0.385 ; -0.533,1.655 -0.533,2.155 ; -0.533,2.925 -0.533,3.425 ; -0.533,4.195 -0.533,4.695 ; -0.533,5.465 -0.533,5.965 ; -1.6,-5.965 1.6,-5.965 1.6,-5.465 -1.6,-5.465 -1.6,-5.965 ; -1.6,-4.695 1.6,-4.695 1.6,-4.195 -1.6,-4.195 -1.6,-4.695 ; -1.6,-3.425 -1.6,-2.925 1.6,-2.925 1.6,-3.425 -1.6,-3.425 ; -1.6,-2.155 -1.6,-1.655 1.6,-1.655 1.6,-2.155 -1.6,-2.155 ; -1.6,-0.885 -1.6,-0.385 1.6,-0.385 1.6,-0.885 -1.6,-0.885 ; -1.6,0.385 -1.6,0.885 1.6,0.885 1.6,0.385 -1.6,0.385 ; -2.25,-6.985 -2.25,5.985 -1.25,6.985 2.25,6.985 2.25,-6.985 -2.25,-6.985 ; -1.6,1.655 1.6,1.655 1.6,2.155 -1.6,2.155 -1.6,1.655 ; -1.6,2.925 -1.6,3.425 1.6,3.425 1.6,2.925 -1.6,2.925 ; -1.6,4.195 1.6,4.195 1.6,4.695 -1.6,4.695 -1.6,4.195 ; -1.6,5.465 -1.6,5.965 1.6,5.965 1.6,5.465 -1.6,5.465
  text "'.Designator'" at 2.307,-1.841 h0.46
  text "on" at 0.009,6.255 h0.46

## SW_DIP_SPSTx10_Slide_Omron_A6S-1010x_W8.9mm_P2.54mm [mm]
pads (20):
  rect 1.5x1.1 smd: 1(-4.45,11.43) 2(-4.45,8.89) 3(-4.45,6.35) 4(-4.45,3.81) 5(-4.45,1.27) 6(-4.45,-1.27) 7(-4.45,-3.81) 8(-4.45,-6.35) 9(-4.45,-8.89) 10(-4.45,-11.43) 11(4.45,-11.43) 12(4.45,-8.89) 13(4.45,-6.35) 14(4.45,-3.81) 15(4.45,-1.27) 16(4.45,1.27) 17(4.45,3.81) 18(4.45,6.35) 19(4.45,8.89) 20(4.45,11.43)
F.SilkS:
  lines w0.12: -5.2,12.281 -3.16,12.281 -3.16,13.23 3.16,13.23 3.16,11.491 ; -3.16,-11.49 -3.16,-13.23 3.16,-13.23 3.16,-11.49
F.CrtYd:
  lines w0.05: -5.45,-13.5 5.45,-13.5 5.45,13.5 -5.45,13.5 -5.45,-13.5
F.Fab:
  drawing of 161 lines, arcs and shapes, not listed
  text "on" at -0.59,12.188 h0.8
  text "'.Designator'" at 2.972,-3.237 h0.8

## SW_DIP_SPSTx11_Slide_6.7x29.5mm_W6.73mm_P2.54mm_LowProfile_JPin [mm]
pads (22):
  rect 2.16x1.12 smd: 1(-3.365,12.7) 2(-3.365,10.16) 3(-3.365,7.62) 4(-3.365,5.08) 5(-3.365,2.54) 6(-3.365,0) 7(-3.365,-2.54) 8(-3.365,-5.08) 9(-3.365,-7.62) 10(-3.365,-10.16) 11(-3.365,-12.7) 12(3.365,-12.7) 13(3.365,-10.16) 14(3.365,-7.62) 15(3.365,-5.08) 16(3.365,-2.54) 17(3.365,0) 18(3.365,2.54) 19(3.365,5.08) 20(3.365,7.62) 21(3.365,10.16) 22(3.365,12.7)
F.SilkS:
  drawing of 193 lines, arcs and shapes, not listed
F.CrtYd:
  lines w0.05: -4.7,-15.1 -4.7,15.1 4.7,15.1 4.7,-15.1 -4.7,-15.1
F.Fab:
  drawing of 192 lines, arcs and shapes, not listed
  text "'.Designator'" at 3.252,-3.237 h0.8
  text "on" at 0.233,13.656 h0.8

## SW_DIP_SPSTx11_Slide_6.7x29.5mm_W8.61mm_P2.54mm_LowProfile [mm]
pads (22):
  rect 2.44x1.12 smd: 1(-4.305,12.7) 2(-4.305,10.16) 3(-4.305,7.62) 4(-4.305,5.08) 5(-4.305,2.54) 6(-4.305,0) 7(-4.305,-2.54) 8(-4.305,-5.08) 9(-4.305,-7.62) 10(-4.305,-10.16) 11(-4.305,-12.7) 12(4.305,-12.7) 13(4.305,-10.16) 14(4.305,-7.62) 15(4.305,-5.08) 16(4.305,-2.54) 17(4.305,0) 18(4.305,2.54) 19(4.305,5.08) 20(4.305,7.62) 21(4.305,10.16) 22(4.305,12.7)
F.SilkS:
  drawing of 193 lines, arcs and shapes, not listed
F.CrtYd:
  lines w0.05: -5.8,-15.1 5.8,-15.1 5.8,15.1 -5.8,15.1 -5.8,-15.1
F.Fab:
  drawing of 192 lines, arcs and shapes, not listed
  text "on" at -0.237,13.656 h0.8
  text "'.Designator'" at 3.252,-3.237 h0.8

## SW_DIP_SPSTx11_Slide_9.78x30.12mm_W8.61mm_P2.54mm [mm]
pads (22):
  rect 2.44x1.12 smd: 1(-4.305,12.7) 2(-4.305,10.16) 3(-4.305,7.62) 4(-4.305,5.08) 5(-4.305,2.54) 6(-4.305,0) 7(-4.305,-2.54) 8(-4.305,-5.08) 9(-4.305,-7.62) 10(-4.305,-10.16) 11(-4.305,-12.7) 12(4.305,-12.7) 13(4.305,-10.16) 14(4.305,-7.62) 15(4.305,-5.08) 16(4.305,-2.54) 17(4.305,0) 18(4.305,2.54) 19(4.305,5.08) 20(4.305,7.62) 21(4.305,10.16) 22(4.305,12.7)
F.SilkS:
  drawing of 193 lines, arcs and shapes, not listed
F.CrtYd:
  lines w0.05: -5.8,-15.4 5.8,-15.4 5.8,15.4 -5.8,15.4 -5.8,-15.4
F.Fab:
  drawing of 192 lines, arcs and shapes, not listed
  text "'.Designator'" at 4.132,-3.237 h0.8
  text "on" at 0.643,13.811 h0.8

## SW_DIP_SPSTx12_Slide_6.7x32.04mm_W6.73mm_P2.54mm_LowProfile_JPin [mm]
pads (24):
  rect 2.16x1.12 smd: 1(-3.365,13.97) 2(-3.365,11.43) 3(-3.365,8.89) 4(-3.365,6.35) 5(-3.365,3.81) 6(-3.365,1.27) 7(-3.365,-1.27) 8(-3.365,-3.81) 9(-3.365,-6.35) 10(-3.365,-8.89) 11(-3.365,-11.43) 12(-3.365,-13.97) 13(3.365,-13.97) 14(3.365,-11.43) 15(3.365,-8.89) 16(3.365,-6.35) 17(3.365,-3.81) 18(3.365,-1.27) 19(3.365,1.27) 20(3.365,3.81) 21(3.365,6.35) 22(3.365,8.89) 23(3.365,11.43) 24(3.365,13.97)
F.SilkS:
  drawing of 210 lines, arcs and shapes, not listed
F.CrtYd:
  lines w0.05: -4.7,-16.35 4.7,-16.35 4.7,16.35 -4.7,16.35 -4.7,-16.35
F.Fab:
  drawing of 209 lines, arcs and shapes, not listed
  text "'.Designator'" at 3.252,-3.237 h0.8
  text "on" at 0.233,14.926 h0.8

## SW_DIP_SPSTx12_Slide_6.7x32.04mm_W8.61mm_P2.54mm_LowProfile [mm]
pads (24):
  rect 2.44x1.12 smd: 1(-4.305,13.97) 2(-4.305,11.43) 3(-4.305,8.89) 4(-4.305,6.35) 5(-4.305,3.81) 6(-4.305,1.27) 7(-4.305,-1.27) 8(-4.305,-3.81) 9(-4.305,-6.35) 10(-4.305,-8.89) 11(-4.305,-11.43) 12(-4.305,-13.97) 13(4.305,-13.97) 14(4.305,-11.43) 15(4.305,-8.89) 16(4.305,-6.35) 17(4.305,-3.81) 18(4.305,-1.27) 19(4.305,1.27) 20(4.305,3.81) 21(4.305,6.35) 22(4.305,8.89) 23(4.305,11.43) 24(4.305,13.97)
F.SilkS:
  drawing of 210 lines, arcs and shapes, not listed
F.CrtYd:
  lines w0.05: -5.8,-16.35 5.8,-16.35 5.8,16.35 -5.8,16.35 -5.8,-16.35
F.Fab:
  drawing of 209 lines, arcs and shapes, not listed
  text "'.Designator'" at 3.252,-3.237 h0.8
  text "on" at -0.237,14.926 h0.8